# Altium schematic symbol library STM32.SchLib: 8 symbols
Pins are listed as number, name and electrical type; pins without a type are passive.

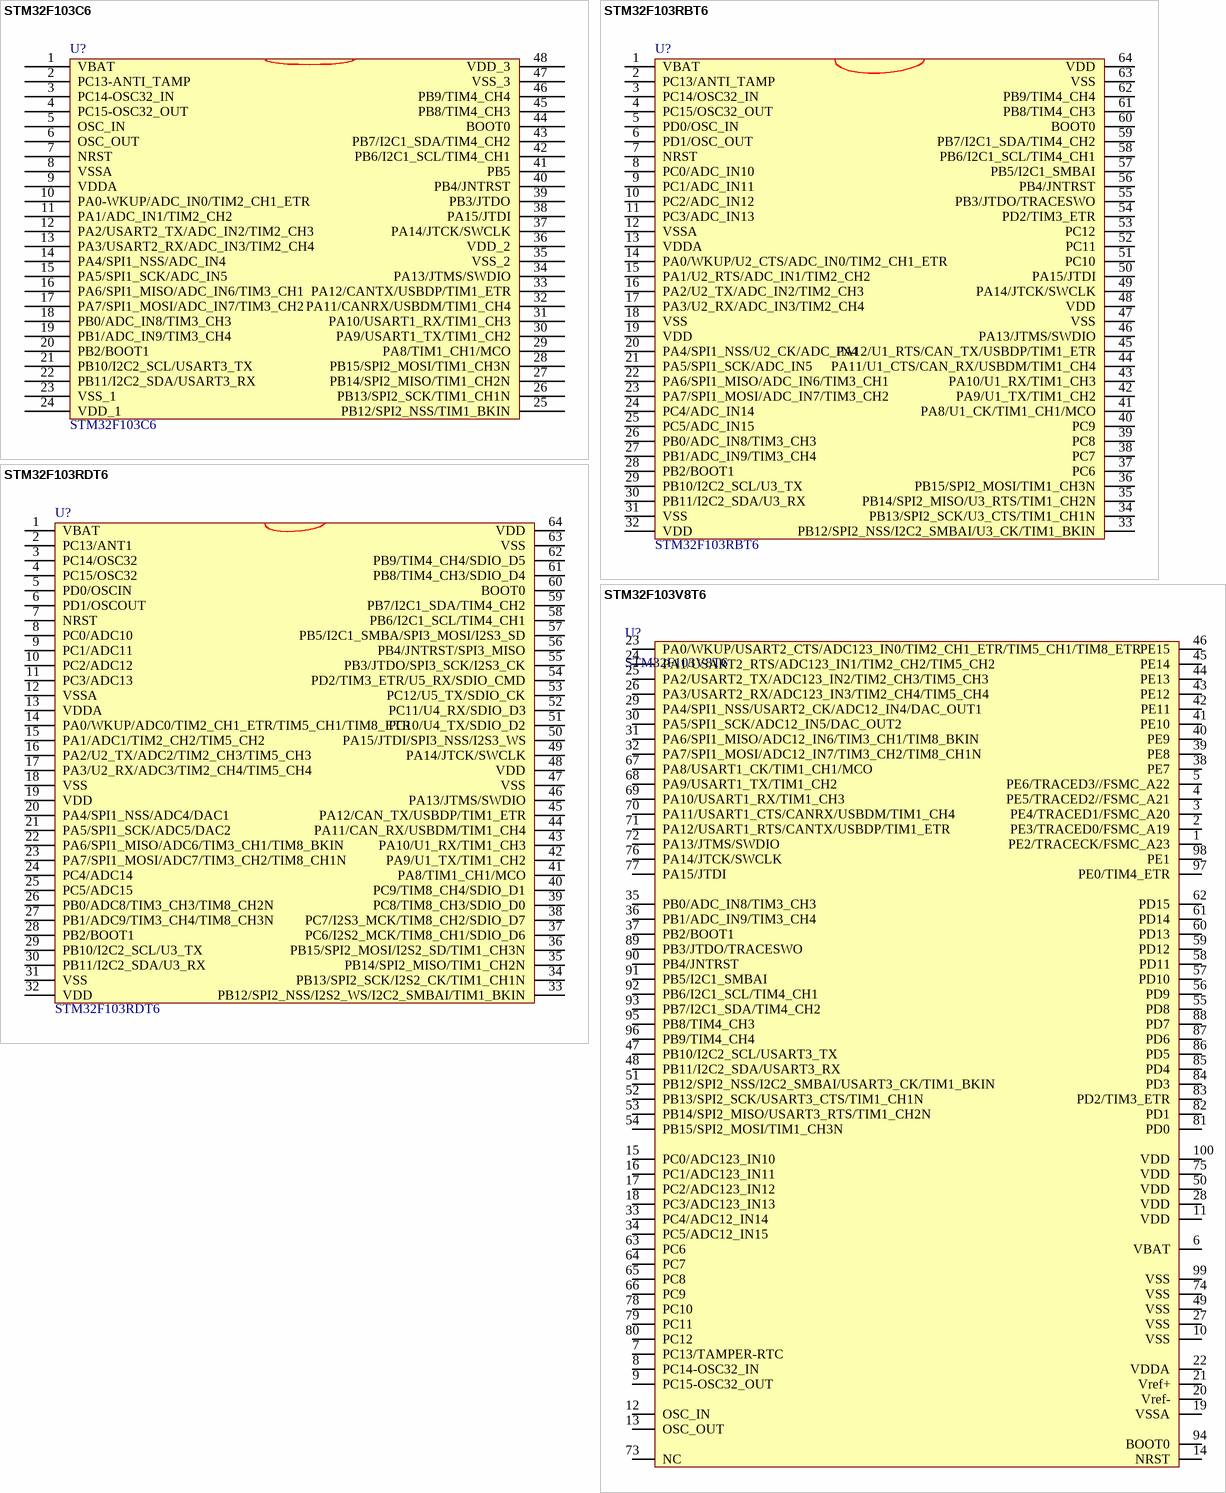
[diagram p0: symbols STM32F103C6 to STM32F103V8T6]

## STM32F103C6
designator U?
footprint LQFP48S (DPIN-0.5)
pins: 1 VBAT, 2 PC13-ANTI_TAMP, 3 PC14-OSC32_IN, 4 PC15-OSC32_OUT, 5 OSC_IN, 6 OSC_OUT, 7 NRST, 8 VSSA, 9 VDDA, 10 PA0-WKUP/ADC_IN0/TIM2_CH1_ETR, 11 PA1/ADC_IN1/TIM2_CH2, 12 PA2/USART2_TX/ADC_IN2/TIM2_CH3, 13 PA3/USART2_RX/ADC_IN3/TIM2_CH4, 14 PA4/SPI1_NSS/ADC_IN4, 15 PA5/SPI1_SCK/ADC_IN5, 16 PA6/SPI1_MISO/ADC_IN6/TIM3_CH1, 17 PA7/SPI1_MOSI/ADC_IN7/TIM3_CH2, 18 PB0/ADC_IN8/TIM3_CH3, 19 PB1/ADC_IN9/TIM3_CH4, 20 PB2/BOOT1, 21 PB10/I2C2_SCL/USART3_TX, 22 PB11/I2C2_SDA/USART3_RX, 23 VSS_1, 24 VDD_1, 25 PB12/SPI2_NSS/TIM1_BKIN, 26 PB13/SPI2_SCK/TIM1_CH1N, 27 PB14/SPI2_MISO/TIM1_CH2N, 28 PB15/SPI2_MOSI/TIM1_CH3N, 29 PA8/TIM1_CH1/MCO, 30 PA9/USART1_TX/TIM1_CH2, 31 PA10/USART1_RX/TIM1_CH3, 32 PA11/CANRX/USBDM/TIM1_CH4, 33 PA12/CANTX/USBDP/TIM1_ETR, 34 PA13/JTMS/SWDIO, 35 VSS_2, 36 VDD_2, 37 PA14/JTCK/SWCLK, 38 PA15/JTDI, 39 PB3/JTDO, 40 PB4/JNTRST, 41 PB5, 42 PB6/I2C1_SCL/TIM4_CH1, 43 PB7/I2C1_SDA/TIM4_CH2, 44 BOOT0, 45 PB8/TIM4_CH3, 46 PB9/TIM4_CH4, 47 VSS_3, 48 VDD_3
2 alternate drawings of the same symbol

## STM32F103RBT6
designator U?
footprint LQFP64
pins: 1 VBAT, 2 PC13/ANTI_TAMP, 3 PC14/OSC32_IN, 4 PC15/OSC32_OUT, 5 PD0/OSC_IN, 6 PD1/OSC_OUT, 7 NRST, 8 PC0/ADC_IN10, 9 PC1/ADC_IN11, 10 PC2/ADC_IN12, 11 PC3/ADC_IN13, 12 VSSA, 13 VDDA, 14 PA0/WKUP/U2_CTS/ADC_IN0/TIM2_CH1_ETR, 15 PA1/U2_RTS/ADC_IN1/TIM2_CH2, 16 PA2/U2_TX/ADC_IN2/TIM2_CH3, 17 PA3/U2_RX/ADC_IN3/TIM2_CH4, 18 VSS, 19 VDD, 20 PA4/SPI1_NSS/U2_CK/ADC_IN4, 21 PA5/SPI1_SCK/ADC_IN5, 22 PA6/SPI1_MISO/ADC_IN6/TIM3_CH1, 23 PA7/SPI1_MOSI/ADC_IN7/TIM3_CH2, 24 PC4/ADC_IN14, 25 PC5/ADC_IN15, 26 PB0/ADC_IN8/TIM3_CH3, 27 PB1/ADC_IN9/TIM3_CH4, 28 PB2/BOOT1, 29 PB10/I2C2_SCL/U3_TX, 30 PB11/I2C2_SDA/U3_RX, 31 VSS, 32 VDD, 33 PB12/SPI2_NSS/I2C2_SMBAI/U3_CK/TIM1_BKIN, 34 PB13/SPI2_SCK/U3_CTS/TIM1_CH1N, 35 PB14/SPI2_MISO/U3_RTS/TIM1_CH2N, 36 PB15/SPI2_MOSI/TIM1_CH3N, 37 PC6, 38 PC7, 39 PC8, 40 PC9, 41 PA8/U1_CK/TIM1_CH1/MCO, 42 PA9/U1_TX/TIM1_CH2, 43 PA10/U1_RX/TIM1_CH3, 44 PA11/U1_CTS/CAN_RX/USBDM/TIM1_CH4, 45 PA12/U1_RTS/CAN_TX/USBDP/TIM1_ETR, 46 PA13/JTMS/SWDIO, 47 VSS, 48 VDD, 49 PA14/JTCK/SWCLK, 50 PA15/JTDI, 51 PC10, 52 PC11, 53 PC12, 54 PD2/TIM3_ETR, 55 PB3/JTDO/TRACESWO, 56 PB4/JNTRST, 57 PB5/I2C1_SMBAI, 58 PB6/I2C1_SCL/TIM4_CH1, 59 PB7/I2C1_SDA/TIM4_CH2, 60 BOOT0, 61 PB8/TIM4_CH3, 62 PB9/TIM4_CH4, 63 VSS, 64 VDD

## STM32F103RDT6
designator U?
footprint LQFP64
pins: 1 VBAT, 2 PC13/ANT1, 3 PC14/OSC32, 4 PC15/OSC32, 5 PD0/OSCIN, 6 PD1/OSCOUT, 7 NRST, 8 PC0/ADC10, 9 PC1/ADC11, 10 PC2/ADC12, 11 PC3/ADC13, 12 VSSA, 13 VDDA, 14 PA0/WKUP/ADC0/TIM2_CH1_ETR/TIM5_CH1/TIM8_ETR, 15 PA1/ADC1/TIM2_CH2/TIM5_CH2, 16 PA2/U2_TX/ADC2/TIM2_CH3/TIM5_CH3, 17 PA3/U2_RX/ADC3/TIM2_CH4/TIM5_CH4, 18 VSS, 19 VDD, 20 PA4/SPI1_NSS/ADC4/DAC1, 21 PA5/SPI1_SCK/ADC5/DAC2, 22 PA6/SPI1_MISO/ADC6/TIM3_CH1/TIM8_BKIN, 23 PA7/SPI1_MOSI/ADC7/TIM3_CH2/TIM8_CH1N, 24 PC4/ADC14, 25 PC5/ADC15, 26 PB0/ADC8/TIM3_CH3/TIM8_CH2N, 27 PB1/ADC9/TIM3_CH4/TIM8_CH3N, 28 PB2/BOOT1, 29 PB10/I2C2_SCL/U3_TX, 30 PB11/I2C2_SDA/U3_RX, 31 VSS, 32 VDD, 33 PB12/SPI2_NSS/I2S2_WS/I2C2_SMBAI/TIM1_BKIN, 34 PB13/SPI2_SCK/I2S2_CK/TIM1_CH1N, 35 PB14/SPI2_MISO/TIM1_CH2N, 36 PB15/SPI2_MOSI/I2S2_SD/TIM1_CH3N, 37 PC6/I2S2_MCK/TIM8_CH1/SDIO_D6, 38 PC7/I2S3_MCK/TIM8_CH2/SDIO_D7, 39 PC8/TIM8_CH3/SDIO_D0, 40 PC9/TIM8_CH4/SDIO_D1, 41 PA8/TIM1_CH1/MCO, 42 PA9/U1_TX/TIM1_CH2, 43 PA10/U1_RX/TIM1_CH3, 44 PA11/CAN_RX/USBDM/TIM1_CH4, 45 PA12/CAN_TX/USBDP/TIM1_ETR, 46 PA13/JTMS/SWDIO, 47 VSS, 48 VDD, 49 PA14/JTCK/SWCLK, 50 PA15/JTDI/SPI3_NSS/I2S3_WS, 51 PC10/U4_TX/SDIO_D2, 52 PC11/U4_RX/SDIO_D3, 53 PC12/U5_TX/SDIO_CK, 54 PD2/TIM3_ETR/U5_RX/SDIO_CMD, 55 PB3/JTDO/SPI3_SCK/I2S3_CK, 56 PB4/JNTRST/SPI3_MISO, 57 PB5/I2C1_SMBA/SPI3_MOSI/I2S3_SD, 58 PB6/I2C1_SCL/TIM4_CH1, 59 PB7/I2C1_SDA/TIM4_CH2, 60 BOOT0, 61 PB8/TIM4_CH3/SDIO_D4, 62 PB9/TIM4_CH4/SDIO_D5, 63 VSS, 64 VDD

## STM32F103V8T6
designator U?
footprint LQFP100 (TSQFP, 100-Leads, Body 16.0x16.0mm (max), Pitch 0.50mm, IPC Medium Density)
pins: 1 PE2/TRACECK/FSMC_A23, 2 PE3/TRACED0/FSMC_A19, 3 PE4/TRACED1/FSMC_A20, 4 PE5/TRACED2//FSMC_A21, 5 PE6/TRACED3//FSMC_A22, 6 VBAT, 7 PC13/TAMPER-RTC, 8 PC14-OSC32_IN, 9 PC15-OSC32_OUT, 10 VSS, 11 VDD, 12 OSC_IN, 13 OSC_OUT, 14 NRST, 15 PC0/ADC123_IN10, 16 PC1/ADC123_IN11, 17 PC2/ADC123_IN12, 18 PC3/ADC123_IN13, 19 VSSA, 20 Vref-, 21 Vref+, 22 VDDA, 23 PA0/WKUP/USART2_CTS/ADC123_IN0/TIM2_CH1_ETR/TIM5_CH1/TIM8_ETR, 24 PA1/USART2_RTS/ADC123_IN1/TIM2_CH2/TIM5_CH2, 25 PA2/USART2_TX/ADC123_IN2/TIM2_CH3/TIM5_CH3, 26 PA3/USART2_RX/ADC123_IN3/TIM2_CH4/TIM5_CH4, 27 VSS, 28 VDD, 29 PA4/SPI1_NSS/USART2_CK/ADC12_IN4/DAC_OUT1, 30 PA5/SPI1_SCK/ADC12_IN5/DAC_OUT2, 31 PA6/SPI1_MISO/ADC12_IN6/TIM3_CH1/TIM8_BKIN, 32 PA7/SPI1_MOSI/ADC12_IN7/TIM3_CH2/TIM8_CH1N, 33 PC4/ADC12_IN14, 34 PC5/ADC12_IN15, 35 PB0/ADC_IN8/TIM3_CH3, 36 PB1/ADC_IN9/TIM3_CH4, 37 PB2/BOOT1, 38 PE7, 39 PE8, 40 PE9, 41 PE10, 42 PE11, 43 PE12, 44 PE13, 45 PE14, 46 PE15, 47 PB10/I2C2_SCL/USART3_TX, 48 PB11/I2C2_SDA/USART3_RX, 49 VSS, 50 VDD, 51 PB12/SPI2_NSS/I2C2_SMBAI/USART3_CK/TIM1_BKIN, 52 PB13/SPI2_SCK/USART3_CTS/TIM1_CH1N, 53 PB14/SPI2_MISO/USART3_RTS/TIM1_CH2N, 54 PB15/SPI2_MOSI/TIM1_CH3N, 55 PD8, 56 PD9, 57 PD10, 58 PD11, 59 PD12, 60 PD13, 61 PD14, 62 PD15, 63 PC6, 64 PC7, 65 PC8, 66 PC9, 67 PA8/USART1_CK/TIM1_CH1/MCO, 68 PA9/USART1_TX/TIM1_CH2, 69 PA10/USART1_RX/TIM1_CH3, 70 PA11/USART1_CTS/CANRX/USBDM/TIM1_CH4, 71 PA12/USART1_RTS/CANTX/USBDP/TIM1_ETR, 72 PA13/JTMS/SWDIO, 73 NC, 74 VSS, 75 VDD, 76 PA14/JTCK/SWCLK, 77 PA15/JTDI, 78 PC10, 79 PC11, 80 PC12, 81 PD0, 82 PD1, 83 PD2/TIM3_ETR, 84 PD3, 85 PD4, 86 PD5, 87 PD6, 88 PD7, 89 PB3/JTDO/TRACESWO, 90 PB4/JNTRST, 91 PB5/I2C1_SMBAI, 92 PB6/I2C1_SCL/TIM4_CH1, 93 PB7/I2C1_SDA/TIM4_CH2, 94 BOOT0, 95 PB8/TIM4_CH3, 96 PB9/TIM4_CH4, 97 PE0/TIM4_ETR, 98 PE1, 99 VSS, 100 VDD

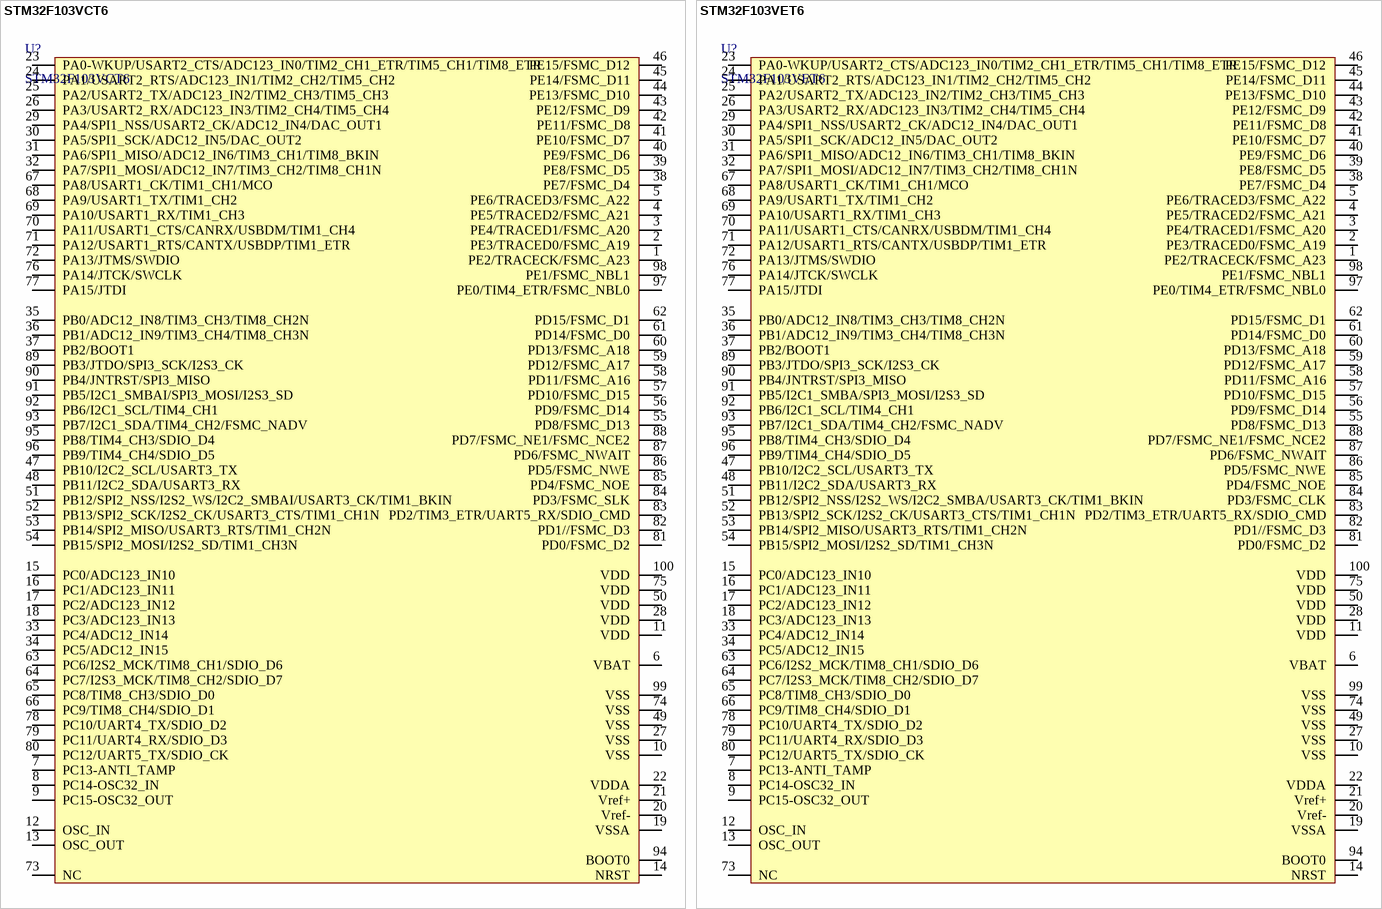
[diagram p1: symbols STM32F103VCT6 to STM32F103VET6]

## STM32F103VCT6
designator U?
footprint LQFP100 (TSQFP, 100-Leads, Body 16.0x16.0mm (max), Pitch 0.50mm, IPC Medium Density)
pins: 1 PE2/TRACECK/FSMC_A23, 2 PE3/TRACED0/FSMC_A19, 3 PE4/TRACED1/FSMC_A20, 4 PE5/TRACED2/FSMC_A21, 5 PE6/TRACED3/FSMC_A22, 6 VBAT, 7 PC13-ANTI_TAMP, 8 PC14-OSC32_IN, 9 PC15-OSC32_OUT, 10 VSS, 11 VDD, 12 OSC_IN, 13 OSC_OUT, 14 NRST, 15 PC0/ADC123_IN10, 16 PC1/ADC123_IN11, 17 PC2/ADC123_IN12, 18 PC3/ADC123_IN13, 19 VSSA, 20 Vref-, 21 Vref+, 22 VDDA, 23 PA0-WKUP/USART2_CTS/ADC123_IN0/TIM2_CH1_ETR/TIM5_CH1/TIM8_ETR, 24 PA1/USART2_RTS/ADC123_IN1/TIM2_CH2/TIM5_CH2, 25 PA2/USART2_TX/ADC123_IN2/TIM2_CH3/TIM5_CH3, 26 PA3/USART2_RX/ADC123_IN3/TIM2_CH4/TIM5_CH4, 27 VSS, 28 VDD, 29 PA4/SPI1_NSS/USART2_CK/ADC12_IN4/DAC_OUT1, 30 PA5/SPI1_SCK/ADC12_IN5/DAC_OUT2, 31 PA6/SPI1_MISO/ADC12_IN6/TIM3_CH1/TIM8_BKIN, 32 PA7/SPI1_MOSI/ADC12_IN7/TIM3_CH2/TIM8_CH1N, 33 PC4/ADC12_IN14, 34 PC5/ADC12_IN15, 35 PB0/ADC12_IN8/TIM3_CH3/TIM8_CH2N, 36 PB1/ADC12_IN9/TIM3_CH4/TIM8_CH3N, 37 PB2/BOOT1, 38 PE7/FSMC_D4, 39 PE8/FSMC_D5, 40 PE9/FSMC_D6, 41 PE10/FSMC_D7, 42 PE11/FSMC_D8, 43 PE12/FSMC_D9, 44 PE13/FSMC_D10, 45 PE14/FSMC_D11, 46 PE15/FSMC_D12, 47 PB10/I2C2_SCL/USART3_TX, 48 PB11/I2C2_SDA/USART3_RX, 49 VSS, 50 VDD, 51 PB12/SPI2_NSS/I2S2_WS/I2C2_SMBAI/USART3_CK/TIM1_BKIN, 52 PB13/SPI2_SCK/I2S2_CK/USART3_CTS/TIM1_CH1N, 53 PB14/SPI2_MISO/USART3_RTS/TIM1_CH2N, 54 PB15/SPI2_MOSI/I2S2_SD/TIM1_CH3N, 55 PD8/FSMC_D13, 56 PD9/FSMC_D14, 57 PD10/FSMC_D15, 58 PD11/FSMC_A16, 59 PD12/FSMC_A17, 60 PD13/FSMC_A18, 61 PD14/FSMC_D0, 62 PD15/FSMC_D1, 63 PC6/I2S2_MCK/TIM8_CH1/SDIO_D6, 64 PC7/I2S3_MCK/TIM8_CH2/SDIO_D7, 65 PC8/TIM8_CH3/SDIO_D0, 66 PC9/TIM8_CH4/SDIO_D1, 67 PA8/USART1_CK/TIM1_CH1/MCO, 68 PA9/USART1_TX/TIM1_CH2, 69 PA10/USART1_RX/TIM1_CH3, 70 PA11/USART1_CTS/CANRX/USBDM/TIM1_CH4, 71 PA12/USART1_RTS/CANTX/USBDP/TIM1_ETR, 72 PA13/JTMS/SWDIO, 73 NC, 74 VSS, 75 VDD, 76 PA14/JTCK/SWCLK, 77 PA15/JTDI, 78 PC10/UART4_TX/SDIO_D2, 79 PC11/UART4_RX/SDIO_D3, 80 PC12/UART5_TX/SDIO_CK, 81 PD0/FSMC_D2, 82 PD1//FSMC_D3, 83 PD2/TIM3_ETR/UART5_RX/SDIO_CMD, 84 PD3/FSMC_SLK, 85 PD4/FSMC_NOE, 86 PD5/FSMC_NWE, 87 PD6/FSMC_NWAIT, 88 PD7/FSMC_NE1/FSMC_NCE2, 89 PB3/JTDO/SPI3_SCK/I2S3_CK, 90 PB4/JNTRST/SPI3_MISO, 91 PB5/I2C1_SMBAI/SPI3_MOSI/I2S3_SD, 92 PB6/I2C1_SCL/TIM4_CH1, 93 PB7/I2C1_SDA/TIM4_CH2/FSMC_NADV, 94 BOOT0, 95 PB8/TIM4_CH3/SDIO_D4, 96 PB9/TIM4_CH4/SDIO_D5, 97 PE0/TIM4_ETR/FSMC_NBL0, 98 PE1/FSMC_NBL1, 99 VSS, 100 VDD

## STM32F103VET6
designator U?
footprint LQFP100 (TSQFP, 100-Leads, Body 16.0x16.0mm (max), Pitch 0.50mm, IPC Medium Density)
pins: 1 PE2/TRACECK/FSMC_A23, 2 PE3/TRACED0/FSMC_A19, 3 PE4/TRACED1/FSMC_A20, 4 PE5/TRACED2/FSMC_A21, 5 PE6/TRACED3/FSMC_A22, 6 VBAT, 7 PC13-ANTI_TAMP, 8 PC14-OSC32_IN, 9 PC15-OSC32_OUT, 10 VSS, 11 VDD, 12 OSC_IN, 13 OSC_OUT, 14 NRST, 15 PC0/ADC123_IN10, 16 PC1/ADC123_IN11, 17 PC2/ADC123_IN12, 18 PC3/ADC123_IN13, 19 VSSA, 20 Vref-, 21 Vref+, 22 VDDA, 23 PA0-WKUP/USART2_CTS/ADC123_IN0/TIM2_CH1_ETR/TIM5_CH1/TIM8_ETR, 24 PA1/USART2_RTS/ADC123_IN1/TIM2_CH2/TIM5_CH2, 25 PA2/USART2_TX/ADC123_IN2/TIM2_CH3/TIM5_CH3, 26 PA3/USART2_RX/ADC123_IN3/TIM2_CH4/TIM5_CH4, 27 VSS, 28 VDD, 29 PA4/SPI1_NSS/USART2_CK/ADC12_IN4/DAC_OUT1, 30 PA5/SPI1_SCK/ADC12_IN5/DAC_OUT2, 31 PA6/SPI1_MISO/ADC12_IN6/TIM3_CH1/TIM8_BKIN, 32 PA7/SPI1_MOSI/ADC12_IN7/TIM3_CH2/TIM8_CH1N, 33 PC4/ADC12_IN14, 34 PC5/ADC12_IN15, 35 PB0/ADC12_IN8/TIM3_CH3/TIM8_CH2N, 36 PB1/ADC12_IN9/TIM3_CH4/TIM8_CH3N, 37 PB2/BOOT1, 38 PE7/FSMC_D4, 39 PE8/FSMC_D5, 40 PE9/FSMC_D6, 41 PE10/FSMC_D7, 42 PE11/FSMC_D8, 43 PE12/FSMC_D9, 44 PE13/FSMC_D10, 45 PE14/FSMC_D11, 46 PE15/FSMC_D12, 47 PB10/I2C2_SCL/USART3_TX, 48 PB11/I2C2_SDA/USART3_RX, 49 VSS, 50 VDD, 51 PB12/SPI2_NSS/I2S2_WS/I2C2_SMBA/USART3_CK/TIM1_BKIN, 52 PB13/SPI2_SCK/I2S2_CK/USART3_CTS/TIM1_CH1N, 53 PB14/SPI2_MISO/USART3_RTS/TIM1_CH2N, 54 PB15/SPI2_MOSI/I2S2_SD/TIM1_CH3N, 55 PD8/FSMC_D13, 56 PD9/FSMC_D14, 57 PD10/FSMC_D15, 58 PD11/FSMC_A16, 59 PD12/FSMC_A17, 60 PD13/FSMC_A18, 61 PD14/FSMC_D0, 62 PD15/FSMC_D1, 63 PC6/I2S2_MCK/TIM8_CH1/SDIO_D6, 64 PC7/I2S3_MCK/TIM8_CH2/SDIO_D7, 65 PC8/TIM8_CH3/SDIO_D0, 66 PC9/TIM8_CH4/SDIO_D1, 67 PA8/USART1_CK/TIM1_CH1/MCO, 68 PA9/USART1_TX/TIM1_CH2, 69 PA10/USART1_RX/TIM1_CH3, 70 PA11/USART1_CTS/CANRX/USBDM/TIM1_CH4, 71 PA12/USART1_RTS/CANTX/USBDP/TIM1_ETR, 72 PA13/JTMS/SWDIO, 73 NC, 74 VSS, 75 VDD, 76 PA14/JTCK/SWCLK, 77 PA15/JTDI, 78 PC10/UART4_TX/SDIO_D2, 79 PC11/UART4_RX/SDIO_D3, 80 PC12/UART5_TX/SDIO_CK, 81 PD0/FSMC_D2, 82 PD1//FSMC_D3, 83 PD2/TIM3_ETR/UART5_RX/SDIO_CMD, 84 PD3/FSMC_CLK, 85 PD4/FSMC_NOE, 86 PD5/FSMC_NWE, 87 PD6/FSMC_NWAIT, 88 PD7/FSMC_NE1/FSMC_NCE2, 89 PB3/JTDO/SPI3_SCK/I2S3_CK, 90 PB4/JNTRST/SPI3_MISO, 91 PB5/I2C1_SMBA/SPI3_MOSI/I2S3_SD, 92 PB6/I2C1_SCL/TIM4_CH1, 93 PB7/I2C1_SDA/TIM4_CH2/FSMC_NADV, 94 BOOT0, 95 PB8/TIM4_CH3/SDIO_D4, 96 PB9/TIM4_CH4/SDIO_D5, 97 PE0/TIM4_ETR/FSMC_NBL0, 98 PE1/FSMC_NBL1, 99 VSS, 100 VDD

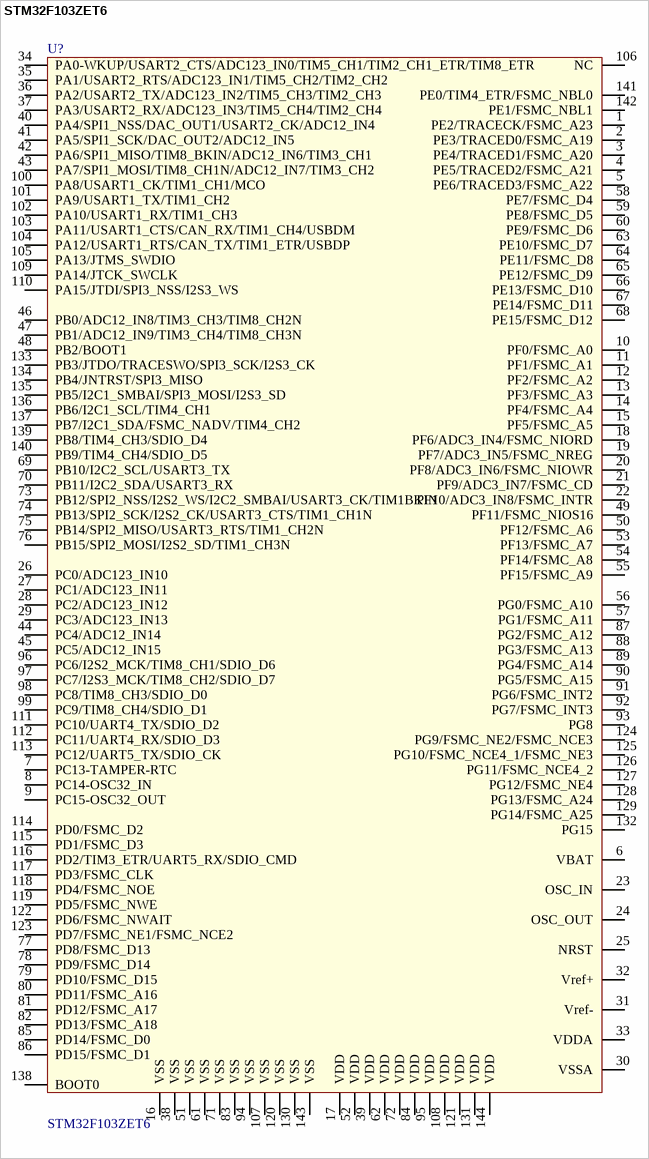
[diagram p2: symbol STM32F103ZET6]

## STM32F103ZET6
designator U?
footprint LQFP144
pins: 1 PE2/TRACECK/FSMC_A23, 2 PE3/TRACED0/FSMC_A19, 3 PE4/TRACED1/FSMC_A20, 4 PE5/TRACED2/FSMC_A21, 5 PE6/TRACED3/FSMC_A22, 6 VBAT, 7 PC13-TAMPER-RTC, 8 PC14-OSC32_IN, 9 PC15-OSC32_OUT, 10 PF0/FSMC_A0, 11 PF1/FSMC_A1, 12 PF2/FSMC_A2, 13 PF3/FSMC_A3, 14 PF4/FSMC_A4, 15 PF5/FSMC_A5, 16 VSS, 17 VDD, 18 PF6/ADC3_IN4/FSMC_NIORD, 19 PF7/ADC3_IN5/FSMC_NREG, 20 PF8/ADC3_IN6/FSMC_NIOWR, 21 PF9/ADC3_IN7/FSMC_CD, 22 PF10/ADC3_IN8/FSMC_INTR, 23 OSC_IN, 24 OSC_OUT, 25 NRST, 26 PC0/ADC123_IN10, 27 PC1/ADC123_IN11, 28 PC2/ADC123_IN12, 29 PC3/ADC123_IN13, 30 VSSA, 31 Vref-, 32 Vref+, 33 VDDA, 34 PA0-WKUP/USART2_CTS/ADC123_IN0/TIM5_CH1/TIM2_CH1_ETR/TIM8_ETR, 35 PA1/USART2_RTS/ADC123_IN1/TIM5_CH2/TIM2_CH2, 36 PA2/USART2_TX/ADC123_IN2/TIM5_CH3/TIM2_CH3, 37 PA3/USART2_RX/ADC123_IN3/TIM5_CH4/TIM2_CH4, 38 VSS, 39 VDD, 40 PA4/SPI1_NSS/DAC_OUT1/USART2_CK/ADC12_IN4, 41 PA5/SPI1_SCK/DAC_OUT2/ADC12_IN5, 42 PA6/SPI1_MISO/TIM8_BKIN/ADC12_IN6/TIM3_CH1, 43 PA7/SPI1_MOSI/TIM8_CH1N/ADC12_IN7/TIM3_CH2, 44 PC4/ADC12_IN14, 45 PC5/ADC12_IN15, 46 PB0/ADC12_IN8/TIM3_CH3/TIM8_CH2N, 47 PB1/ADC12_IN9/TIM3_CH4/TIM8_CH3N, 48 PB2/BOOT1, 49 PF11/FSMC_NIOS16, 50 PF12/FSMC_A6, 51 VSS, 52 VDD, 53 PF13/FSMC_A7, 54 PF14/FSMC_A8, 55 PF15/FSMC_A9, 56 PG0/FSMC_A10, 57 PG1/FSMC_A11, 58 PE7/FSMC_D4, 59 PE8/FSMC_D5, 60 PE9/FSMC_D6, 61 VSS, 62 VDD, 63 PE10/FSMC_D7, 64 PE11/FSMC_D8, 65 PE12/FSMC_D9, 66 PE13/FSMC_D10, 67 PE14/FSMC_D11, 68 PE15/FSMC_D12, 69 PB10/I2C2_SCL/USART3_TX, 70 PB11/I2C2_SDA/USART3_RX, 71 VSS, 72 VDD, 73 PB12/SPI2_NSS/I2S2_WS/I2C2_SMBAI/USART3_CK/TIM1BKIN, 74 PB13/SPI2_SCK/I2S2_CK/USART3_CTS/TIM1_CH1N, 75 PB14/SPI2_MISO/USART3_RTS/TIM1_CH2N, 76 PB15/SPI2_MOSI/I2S2_SD/TIM1_CH3N, 77 PD8/FSMC_D13, 78 PD9/FSMC_D14, 79 PD10/FSMC_D15, 80 PD11/FSMC_A16, 81 PD12/FSMC_A17, 82 PD13/FSMC_A18, 83 VSS, 84 VDD, 85 PD14/FSMC_D0, 86 PD15/FSMC_D1, 87 PG2/FSMC_A12, 88 PG3/FSMC_A13, 89 PG4/FSMC_A14, 90 PG5/FSMC_A15, 91 PG6/FSMC_INT2, 92 PG7/FSMC_INT3, 93 PG8, 94 VSS, 95 VDD, 96 PC6/I2S2_MCK/TIM8_CH1/SDIO_D6, 97 PC7/I2S3_MCK/TIM8_CH2/SDIO_D7, 98 PC8/TIM8_CH3/SDIO_D0, 99 PC9/TIM8_CH4/SDIO_D1, 100 PA8/USART1_CK/TIM1_CH1/MCO, 101 PA9/USART1_TX/TIM1_CH2, 102 PA10/USART1_RX/TIM1_CH3, 103 PA11/USART1_CTS/CAN_RX/TIM1_CH4/USBDM, 104 PA12/USART1_RTS/CAN_TX/TIM1_ETR/USBDP, 105 PA13/JTMS_SWDIO, 106 NC, 107 VSS, 108 VDD, 109 PA14/JTCK_SWCLK, 110 PA15/JTDI/SPI3_NSS/I2S3_WS, 111 PC10/UART4_TX/SDIO_D2, 112 PC11/UART4_RX/SDIO_D3, 113 PC12/UART5_TX/SDIO_CK, 114 PD0/FSMC_D2, 115 PD1/FSMC_D3, 116 PD2/TIM3_ETR/UART5_RX/SDIO_CMD, 117 PD3/FSMC_CLK, 118 PD4/FSMC_NOE, 119 PD5/FSMC_NWE, 120 VSS, 121 VDD, 122 PD6/FSMC_NWAIT, 123 PD7/FSMC_NE1/FSMC_NCE2, 124 PG9/FSMC_NE2/FSMC_NCE3, 125 PG10/FSMC_NCE4_1/FSMC_NE3, 126 PG11/FSMC_NCE4_2, 127 PG12/FSMC_NE4, 128 PG13/FSMC_A24, 129 PG14/FSMC_A25, 130 VSS, 131 VDD, 132 PG15, 133 PB3/JTDO/TRACESWO/SPI3_SCK/I2S3_CK, 134 PB4/JNTRST/SPI3_MISO, 135 PB5/I2C1_SMBAI/SPI3_MOSI/I2S3_SD, 136 PB6/I2C1_SCL/TIM4_CH1, 137 PB7/I2C1_SDA/FSMC_NADV/TIM4_CH2, 138 BOOT0, 139 PB8/TIM4_CH3/SDIO_D4, 140 PB9/TIM4_CH4/SDIO_D5, 141 PE0/TIM4_ETR/FSMC_NBL0, 142 PE1/FSMC_NBL1, 143 VSS, 144 VDD

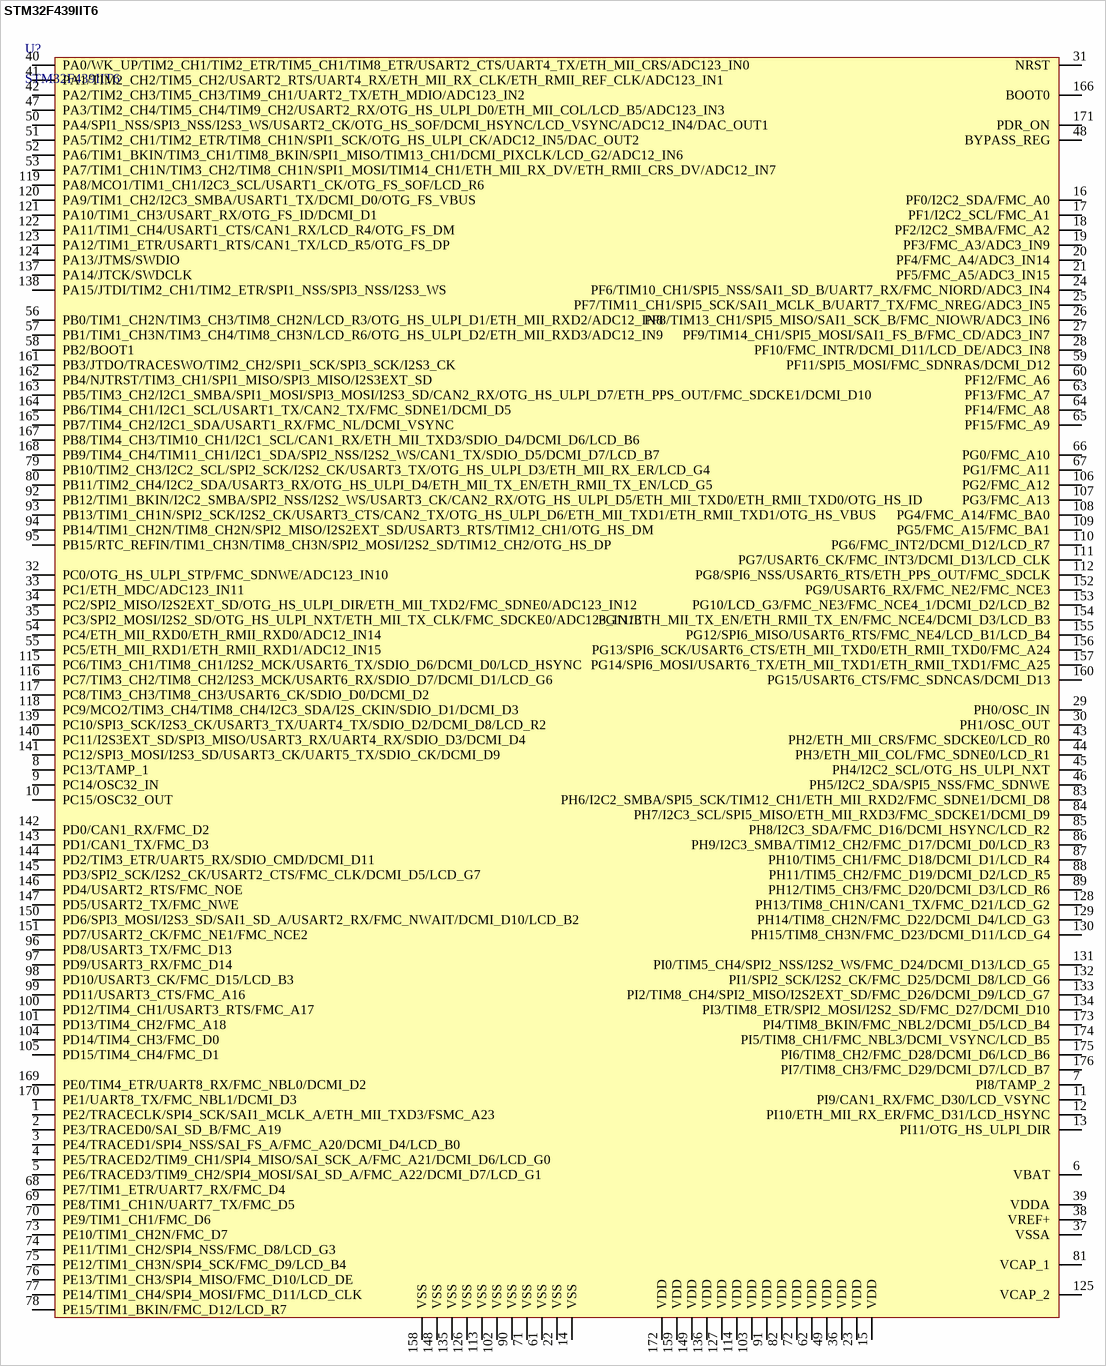
[diagram p3: symbol STM32F439IIT6]

## STM32F439IIT6
designator U?
footprint LQFP176 (TSQFP, 176-Leads, Body 26.1x26.1mm (max), Pitch 0.50mm, IPC Medium Density)
pins: 1 PE2/TRACECLK/SPI4_SCK/SAI1_MCLK_A/ETH_MII_TXD3/FSMC_A23, 2 PE3/TRACED0/SAI_SD_B/FMC_A19, 3 PE4/TRACED1/SPI4_NSS/SAI_FS_A/FMC_A20/DCMI_D4/LCD_B0, 4 PE5/TRACED2/TIM9_CH1/SPI4_MISO/SAI_SCK_A/FMC_A21/DCMI_D6/LCD_G0, 5 PE6/TRACED3/TIM9_CH2/SPI4_MOSI/SAI_SD_A/FMC_A22/DCMI_D7/LCD_G1, 6 VBAT, 7 PI8/TAMP_2, 8 PC13/TAMP_1, 9 PC14/OSC32_IN, 10 PC15/OSC32_OUT, 11 PI9/CAN1_RX/FMC_D30/LCD_VSYNC, 12 PI10/ETH_MII_RX_ER/FMC_D31/LCD_HSYNC, 13 PI11/OTG_HS_ULPI_DIR, 14 VSS, 15 VDD, 16 PF0/I2C2_SDA/FMC_A0, 17 PF1/I2C2_SCL/FMC_A1, 18 PF2/I2C2_SMBA/FMC_A2, 19 PF3/FMC_A3/ADC3_IN9, 20 PF4/FMC_A4/ADC3_IN14, 21 PF5/FMC_A5/ADC3_IN15, 22 VSS, 23 VDD, 24 PF6/TIM10_CH1/SPI5_NSS/SAI1_SD_B/UART7_RX/FMC_NIORD/ADC3_IN4, 25 PF7/TIM11_CH1/SPI5_SCK/SAI1_MCLK_B/UART7_TX/FMC_NREG/ADC3_IN5, 26 PF8/TIM13_CH1/SPI5_MISO/SAI1_SCK_B/FMC_NIOWR/ADC3_IN6, 27 PF9/TIM14_CH1/SPI5_MOSI/SAI1_FS_B/FMC_CD/ADC3_IN7, 28 PF10/FMC_INTR/DCMI_D11/LCD_DE/ADC3_IN8, 29 PH0/OSC_IN, 30 PH1/OSC_OUT, 31 NRST, 32 PC0/OTG_HS_ULPI_STP/FMC_SDNWE/ADC123_IN10, 33 PC1/ETH_MDC/ADC123_IN11, 34 PC2/SPI2_MISO/I2S2EXT_SD/OTG_HS_ULPI_DIR/ETH_MII_TXD2/FMC_SDNE0/ADC123_IN12, 35 PC3/SPI2_MOSI/I2S2_SD/OTG_HS_ULPI_NXT/ETH_MII_TX_CLK/FMC_SDCKE0/ADC123_IN13, 36 VDD, 37 VSSA, 38 VREF+, 39 VDDA, 40 PA0/WK_UP/TIM2_CH1/TIM2_ETR/TIM5_CH1/TIM8_ETR/USART2_CTS/UART4_TX/ETH_MII_CRS/ADC123_IN0, 41 PA1/TIM2_CH2/TIM5_CH2/USART2_RTS/UART4_RX/ETH_MII_RX_CLK/ETH_RMII_REF_CLK/ADC123_IN1, 42 PA2/TIM2_CH3/TIM5_CH3/TIM9_CH1/UART2_TX/ETH_MDIO/ADC123_IN2, 43 PH2/ETH_MII_CRS/FMC_SDCKE0/LCD_R0, 44 PH3/ETH_MII_COL/FMC_SDNE0/LCD_R1, 45 PH4/I2C2_SCL/OTG_HS_ULPI_NXT, 46 PH5/I2C2_SDA/SPI5_NSS/FMC_SDNWE, 47 PA3/TIM2_CH4/TIM5_CH4/TIM9_CH2/USART2_RX/OTG_HS_ULPI_D0/ETH_MII_COL/LCD_B5/ADC123_IN3, 48 BYPASS_REG, 49 VDD, 50 PA4/SPI1_NSS/SPI3_NSS/I2S3_WS/USART2_CK/OTG_HS_SOF/DCMI_HSYNC/LCD_VSYNC/ADC12_IN4/DAC_OUT1, 51 PA5/TIM2_CH1/TIM2_ETR/TIM8_CH1N/SPI1_SCK/OTG_HS_ULPI_CK/ADC12_IN5/DAC_OUT2, 52 PA6/TIM1_BKIN/TIM3_CH1/TIM8_BKIN/SPI1_MISO/TIM13_CH1/DCMI_PIXCLK/LCD_G2/ADC12_IN6, 53 PA7/TIM1_CH1N/TIM3_CH2/TIM8_CH1N/SPI1_MOSI/TIM14_CH1/ETH_MII_RX_DV/ETH_RMII_CRS_DV/ADC12_IN7, 54 PC4/ETH_MII_RXD0/ETH_RMII_RXD0/ADC12_IN14, 55 PC5/ETH_MII_RXD1/ETH_RMII_RXD1/ADC12_IN15, 56 PB0/TIM1_CH2N/TIM3_CH3/TIM8_CH2N/LCD_R3/OTG_HS_ULPI_D1/ETH_MII_RXD2/ADC12_IN8, 57 PB1/TIM1_CH3N/TIM3_CH4/TIM8_CH3N/LCD_R6/OTG_HS_ULPI_D2/ETH_MII_RXD3/ADC12_IN9, 58 PB2/BOOT1, 59 PF11/SPI5_MOSI/FMC_SDNRAS/DCMI_D12, 60 PF12/FMC_A6, 61 VSS, 62 VDD, 63 PF13/FMC_A7, 64 PF14/FMC_A8, 65 PF15/FMC_A9, 66 PG0/FMC_A10, 67 PG1/FMC_A11, 68 PE7/TIM1_ETR/UART7_RX/FMC_D4, 69 PE8/TIM1_CH1N/UART7_TX/FMC_D5, 70 PE9/TIM1_CH1/FMC_D6, 71 VSS, 72 VDD, 73 PE10/TIM1_CH2N/FMC_D7, 74 PE11/TIM1_CH2/SPI4_NSS/FMC_D8/LCD_G3, 75 PE12/TIM1_CH3N/SPI4_SCK/FMC_D9/LCD_B4, 76 PE13/TIM1_CH3/SPI4_MISO/FMC_D10/LCD_DE, 77 PE14/TIM1_CH4/SPI4_MOSI/FMC_D11/LCD_CLK, 78 PE15/TIM1_BKIN/FMC_D12/LCD_R7, 79 PB10/TIM2_CH3/I2C2_SCL/SPI2_SCK/I2S2_CK/USART3_TX/OTG_HS_ULPI_D3/ETH_MII_RX_ER/LCD_G4, 80 PB11/TIM2_CH4/I2C2_SDA/USART3_RX/OTG_HS_ULPI_D4/ETH_MII_TX_EN/ETH_RMII_TX_EN/LCD_G5, 81 VCAP_1, 82 VDD, 83 PH6/I2C2_SMBA/SPI5_SCK/TIM12_CH1/ETH_MII_RXD2/FMC_SDNE1/DCMI_D8, 84 PH7/I2C3_SCL/SPI5_MISO/ETH_MII_RXD3/FMC_SDCKE1/DCMI_D9, 85 PH8/I2C3_SDA/FMC_D16/DCMI_HSYNC/LCD_R2, 86 PH9/I2C3_SMBA/TIM12_CH2/FMC_D17/DCMI_D0/LCD_R3, 87 PH10/TIM5_CH1/FMC_D18/DCMI_D1/LCD_R4, 88 PH11/TIM5_CH2/FMC_D19/DCMI_D2/LCD_R5, 89 PH12/TIM5_CH3/FMC_D20/DCMI_D3/LCD_R6, 90 VSS, 91 VDD, 92 PB12/TIM1_BKIN/I2C2_SMBA/SPI2_NSS/I2S2_WS/USART3_CK/CAN2_RX/OTG_HS_ULPI_D5/ETH_MII_TXD0/ETH_RMII_TXD0/OTG_HS_ID, 93 PB13/TIM1_CH1N/SPI2_SCK/I2S2_CK/USART3_CTS/CAN2_TX/OTG_HS_ULPI_D6/ETH_MII_TXD1/ETH_RMII_TXD1/OTG_HS_VBUS, 94 PB14/TIM1_CH2N/TIM8_CH2N/SPI2_MISO/I2S2EXT_SD/USART3_RTS/TIM12_CH1/OTG_HS_DM, 95 PB15/RTC_REFIN/TIM1_CH3N/TIM8_CH3N/SPI2_MOSI/I2S2_SD/TIM12_CH2/OTG_HS_DP, 96 PD8/USART3_TX/FMC_D13, 97 PD9/USART3_RX/FMC_D14, 98 PD10/USART3_CK/FMC_D15/LCD_B3, 99 PD11/USART3_CTS/FMC_A16, 100 PD12/TIM4_CH1/USART3_RTS/FMC_A17, 101 PD13/TIM4_CH2/FMC_A18, 102 VSS, 103 VDD, 104 PD14/TIM4_CH3/FMC_D0, 105 PD15/TIM4_CH4/FMC_D1, 106 PG2/FMC_A12, 107 PG3/FMC_A13, 108 PG4/FMC_A14/FMC_BA0, 109 PG5/FMC_A15/FMC_BA1, 110 PG6/FMC_INT2/DCMI_D12/LCD_R7, 111 PG7/USART6_CK/FMC_INT3/DCMI_D13/LCD_CLK, 112 PG8/SPI6_NSS/USART6_RTS/ETH_PPS_OUT/FMC_SDCLK, 113 VSS, 114 VDD, 115 PC6/TIM3_CH1/TIM8_CH1/I2S2_MCK/USART6_TX/SDIO_D6/DCMI_D0/LCD_HSYNC, 116 PC7/TIM3_CH2/TIM8_CH2/I2S3_MCK/USART6_RX/SDIO_D7/DCMI_D1/LCD_G6, 117 PC8/TIM3_CH3/TIM8_CH3/USART6_CK/SDIO_D0/DCMI_D2, 118 PC9/MCO2/TIM3_CH4/TIM8_CH4/I2C3_SDA/I2S_CKIN/SDIO_D1/DCMI_D3, 119 PA8/MCO1/TIM1_CH1/I2C3_SCL/USART1_CK/OTG_FS_SOF/LCD_R6, 120 PA9/TIM1_CH2/I2C3_SMBA/USART1_TX/DCMI_D0/OTG_FS_VBUS, 121 PA10/TIM1_CH3/USART_RX/OTG_FS_ID/DCMI_D1, 122 PA11/TIM1_CH4/USART1_CTS/CAN1_RX/LCD_R4/OTG_FS_DM, 123 PA12/TIM1_ETR/USART1_RTS/CAN1_TX/LCD_R5/OTG_FS_DP, 124 PA13/JTMS/SWDIO, 125 VCAP_2, 126 VSS, 127 VDD, 128 PH13/TIM8_CH1N/CAN1_TX/FMC_D21/LCD_G2, 129 PH14/TIM8_CH2N/FMC_D22/DCMI_D4/LCD_G3, 130 PH15/TIM8_CH3N/FMC_D23/DCMI_D11/LCD_G4, 131 PI0/TIM5_CH4/SPI2_NSS/I2S2_WS/FMC_D24/DCMI_D13/LCD_G5, 132 PI1/SPI2_SCK/I2S2_CK/FMC_D25/DCMI_D8/LCD_G6, 133 PI2/TIM8_CH4/SPI2_MISO/I2S2EXT_SD/FMC_D26/DCMI_D9/LCD_G7, 134 PI3/TIM8_ETR/SPI2_MOSI/I2S2_SD/FMC_D27/DCMI_D10, 135 VSS, 136 VDD, 137 PA14/JTCK/SWDCLK, 138 PA15/JTDI/TIM2_CH1/TIM2_ETR/SPI1_NSS/SPI3_NSS/I2S3_WS, 139 PC10/SPI3_SCK/I2S3_CK/USART3_TX/UART4_TX/SDIO_D2/DCMI_D8/LCD_R2, 140 PC11/I2S3EXT_SD/SPI3_MISO/USART3_RX/UART4_RX/SDIO_D3/DCMI_D4, 141 PC12/SPI3_MOSI/I2S3_SD/USART3_CK/UART5_TX/SDIO_CK/DCMI_D9, 142 PD0/CAN1_RX/FMC_D2, 143 PD1/CAN1_TX/FMC_D3, 144 PD2/TIM3_ETR/UART5_RX/SDIO_CMD/DCMI_D11, 145 PD3/SPI2_SCK/I2S2_CK/USART2_CTS/FMC_CLK/DCMI_D5/LCD_G7, 146 PD4/USART2_RTS/FMC_NOE, 147 PD5/USART2_TX/FMC_NWE, 148 VSS, 149 VDD, 150 PD6/SPI3_MOSI/I2S3_SD/SAI1_SD_A/USART2_RX/FMC_NWAIT/DCMI_D10/LCD_B2, 151 PD7/USART2_CK/FMC_NE1/FMC_NCE2, 152 PG9/USART6_RX/FMC_NE2/FMC_NCE3, 153 PG10/LCD_G3/FMC_NE3/FMC_NCE4_1/DCMI_D2/LCD_B2, 154 PG11/ETH_MII_TX_EN/ETH_RMII_TX_EN/FMC_NCE4/DCMI_D3/LCD_B3, 155 PG12/SPI6_MISO/USART6_RTS/FMC_NE4/LCD_B1/LCD_B4, 156 PG13/SPI6_SCK/USART6_CTS/ETH_MII_TXD0/ETH_RMII_TXD0/FMC_A24, 157 PG14/SPI6_MOSI/USART6_TX/ETH_MII_TXD1/ETH_RMII_TXD1/FMC_A25, 158 VSS, 159 VDD, 160 PG15/USART6_CTS/FMC_SDNCAS/DCMI_D13, 161 PB3/JTDO/TRACESWO/TIM2_CH2/SPI1_SCK/SPI3_SCK/I2S3_CK, 162 PB4/NJTRST/TIM3_CH1/SPI1_MISO/SPI3_MISO/I2S3EXT_SD, 163 PB5/TIM3_CH2/I2C1_SMBA/SPI1_MOSI/SPI3_MOSI/I2S3_SD/CAN2_RX/OTG_HS_ULPI_D7/ETH_PPS_OUT/FMC_SDCKE1/DCMI_D10, 164 PB6/TIM4_CH1/I2C1_SCL/USART1_TX/CAN2_TX/FMC_SDNE1/DCMI_D5, 165 PB7/TIM4_CH2/I2C1_SDA/USART1_RX/FMC_NL/DCMI_VSYNC, 166 BOOT0, 167 PB8/TIM4_CH3/TIM10_CH1/I2C1_SCL/CAN1_RX/ETH_MII_TXD3/SDIO_D4/DCMI_D6/LCD_B6, 168 PB9/TIM4_CH4/TIM11_CH1/I2C1_SDA/SPI2_NSS/I2S2_WS/CAN1_TX/SDIO_D5/DCMI_D7/LCD_B7, 169 PE0/TIM4_ETR/UART8_RX/FMC_NBL0/DCMI_D2, 170 PE1/UART8_TX/FMC_NBL1/DCMI_D3, 171 PDR_ON, 172 VDD, 173 PI4/TIM8_BKIN/FMC_NBL2/DCMI_D5/LCD_B4, 174 PI5/TIM8_CH1/FMC_NBL3/DCMI_VSYNC/LCD_B5, 175 PI6/TIM8_CH2/FMC_D28/DCMI_D6/LCD_B6, 176 PI7/TIM8_CH3/FMC_D29/DCMI_D7/LCD_B7